# Altium footprint library pcblib.PcbLib: 8 footprints
Each footprint in its own frame and in the unit in brackets; x right, y up, seen from the top. Pads: shape width x height; smd on the part's side, far side on the other; paste and mask are expansions set on the pad; w line width, h text height; cw(c..) or ccw(c..) is an arc to the next point about the centre after c.
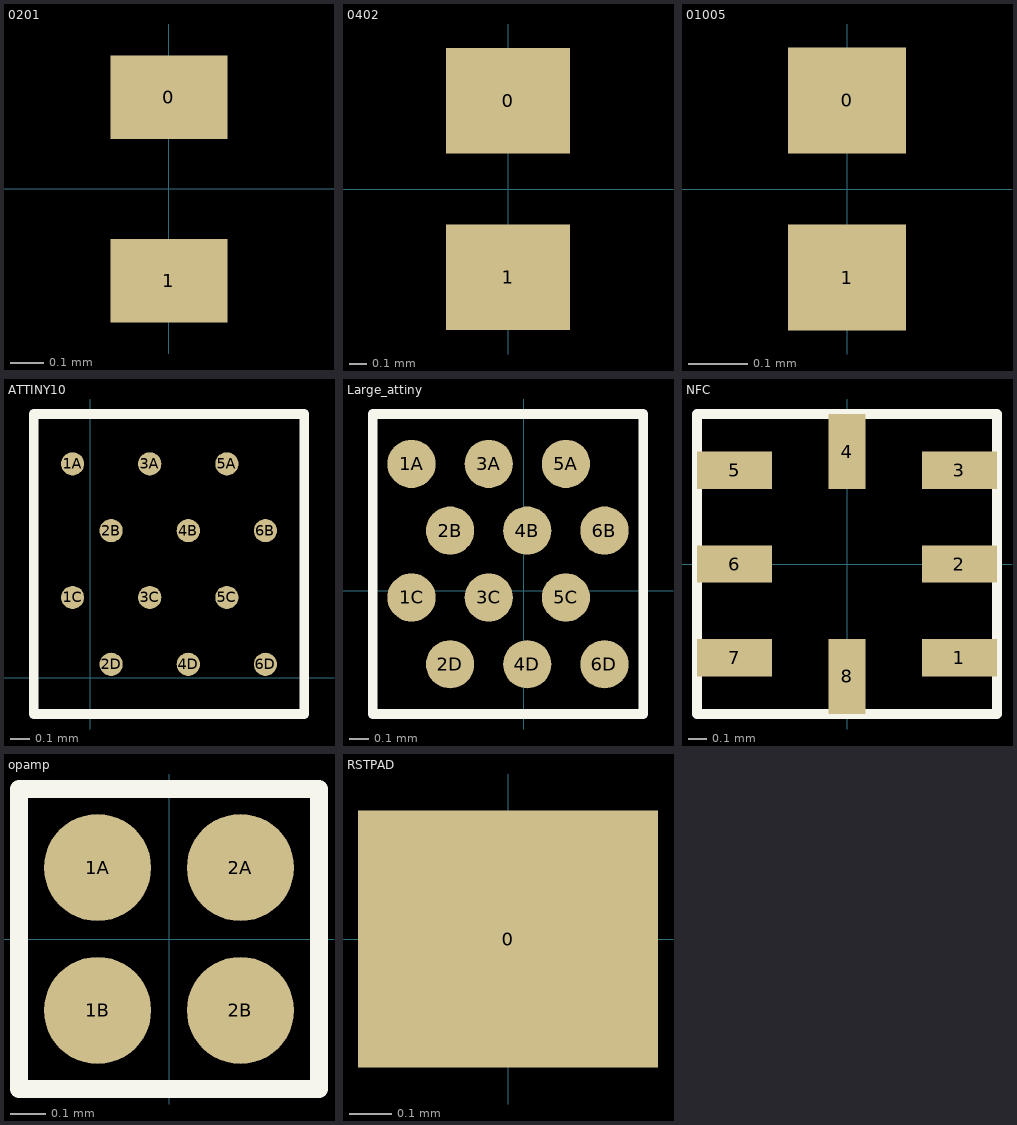
[diagram p0: the footprints below, top view; thin cyan lines are the x and y axes]

## 0201 [mm]
pads (2):
  rect 0.35x0.25 smd: 0(0,0.275) 1(0,-0.275)

## 0402 [mm]
pads (2):
  rect 0.7x0.6 smd: 0(0,0.5) 1(0,-0.5)

## 01005 [mm]
pads (2):
  rect 0.2x0.18 smd: 0(0,0.15) 1(0,-0.15)

## ATTINY10 [mm]
pads (12):
  round 0.12 smd: 1A(-0.092,1.108) 1C(-0.092,0.415) 2B(0.108,0.762) 2D(0.108,0.069) 3A(0.308,1.108) 3C(0.308,0.415) 4B(0.508,0.762) 4D(0.508,0.069) 5A(0.708,1.108) 5C(0.708,0.415) 6B(0.908,0.762) 6D(0.908,0.069)
Top Overlay:
  lines w0.051: -0.293,-0.189 1.109,-0.189 1.109,1.366 -0.293,1.367 -0.293,-0.189

## Large_attiny [mm]
pads (12):
  round 0.25 smd: 1A(-0.581,0.658) 1C(-0.581,-0.035) 2B(-0.381,0.312) 2D(-0.381,-0.381) 3A(-0.181,0.658) 3C(-0.181,-0.035) 4B(0.019,0.312) 4D(0.019,-0.381) 5A(0.219,0.658) 5C(0.219,-0.035) 6B(0.419,0.312) 6D(0.419,-0.381)
Top Overlay:
  lines w0.051: -0.782,-0.639 0.621,-0.639 0.621,0.917 -0.782,0.917 -0.782,-0.639

## NFC [mm]
pads (8):
  rect 0.4x0.2 smd: 1(0.6,-0.5) 2(0.6,0) 3(0.6,0.5) 5(-0.6,0.5) 6(-0.6,0) 7(-0.6,-0.5)
  rect 0.2x0.4 smd: 4(0,0.6) 8(0,-0.6)
Top Overlay:
  lines w0.051: -0.8,-0.8 0.8,-0.8 0.8,0.8 -0.8,0.8 -0.8,-0.8

## opamp [mm]
pads (4):
  round 0.3 smd: 1A(-0.2,0.2) 1B(-0.2,-0.2) 2A(0.2,0.2) 2B(0.2,-0.2)
Top Overlay:
  lines w0.051: -0.42,-0.42 0.42,-0.42 0.42,0.42 -0.42,0.42 -0.42,-0.42

## RSTPAD [mm]
pads (1):
  rect 0.7x0.6 smd: 0(0,0)